# EAGLE library part M216 (library dec-m)
Two sets of 3 D flip-flops
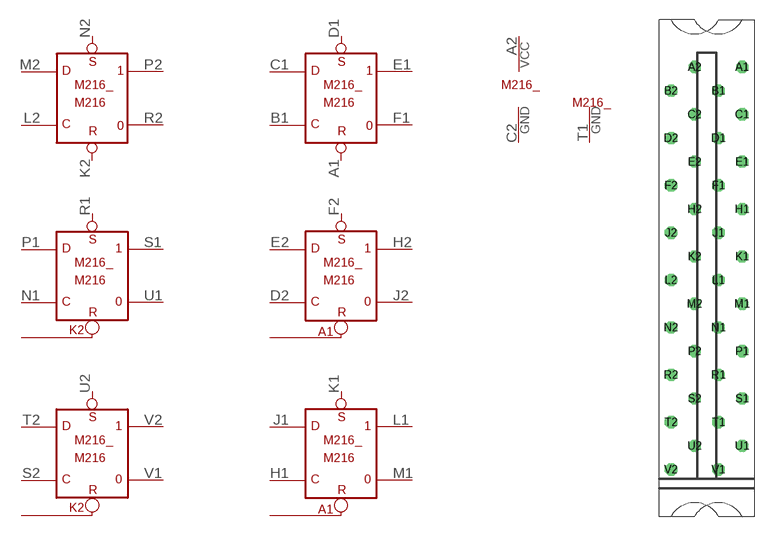
[diagram p88: symbol with the pads of H807; footprint H807]

Designator prefix M216_; gates P2=D-FLOP E1=D-FLOP G$7=POWER G$8=T1GND S1=D-FLOP-K2 V2=D-FLOP-K2 H2=D-FLOP-A1 L1=D-FLOP-A1

## M216  [H807]
A1  E1:R  in
A2  G$7:VCC  pwr
B1  E1:C  in
C1  E1:D  in
C2  G$7:GND  pwr
D1  E1:S  in
D2  H2:C  in
E1  E1:1  out
E2  H2:D  in
F1  E1:0  out
F2  H2:S  in
H1  L1:C  in
H2  H2:1  out
J1  L1:D  in
J2  H2:0  out
K1  L1:S  in
K2  P2:R  in
L1  L1:1  out
L2  P2:C  in
M1  L1:0  out
M2  P2:D  in
N1  S1:C  in
N2  P2:S  in
P1  S1:D  in
P2  P2:1  out
R1  S1:S  in
R2  P2:0  out
S1  S1:1  out
S2  V2:C  in
T1  G$8:GND  pwr
T2  V2:D  in
U1  S1:0  out
U2  V2:S  in
V1  V2:0  out
V2  V2:1  out

## Footprint H807 (pad centres in mm)
One-wide female edge connector
drill 1.092 octagon: A1 4.763,28.575; A2 -1.587,28.575; B1 1.587,25.4; B2 -4.763,25.4; C1 4.763,22.225; C2 -1.587,22.225; D1 1.587,19.05; D2 -4.763,19.05; E1 4.763,15.875; E2 -1.587,15.875; F1 1.587,12.7; F2 -4.763,12.7; H1 4.763,9.525; H2 -1.587,9.525; J1 1.587,6.35; J2 -4.763,6.35; K1 4.763,3.175; K2 -1.587,3.175; L1 1.587,0; L2 -4.763,0; M1 4.763,-3.175; M2 -1.587,-3.175; N1 1.587,-6.35; N2 -4.763,-6.35; P1 4.763,-9.525; P2 -1.587,-9.525; R1 1.587,-12.7; R2 -4.763,-12.7; S1 4.763,-15.875; S2 -1.587,-15.875; T1 1.587,-19.05; T2 -4.763,-19.05; U1 4.763,-22.225; U2 -1.587,-22.225; V1 1.587,-25.4; V2 -4.763,-25.4